# Altium footprint library RES2010.PcbLib: 4 footprints
Each footprint in its own frame and in the unit in brackets; x right, y up, seen from the top. Pads: shape width x height; smd on the part's side, far side on the other; paste and mask are expansions set on the pad; w line width, h text height; cw(c..) or ccw(c..) is an arc to the next point about the centre after c.
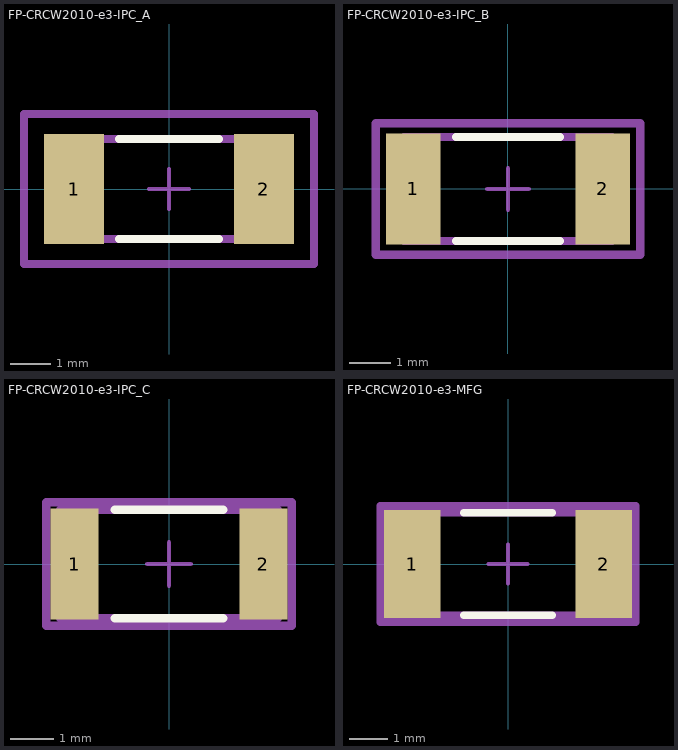
[diagram p0: the footprints below, top view; thin cyan lines are the x and y axes]

## FP-CRCW2010-e3-IPC_A [mm]
pads (2):
  rect 1.506x2.758 smd paste+0 mask+0: 1(-2.376,0) 2(2.376,0)
Top Overlay:
  lines w0.2: -1.248,-1.25 1.248,-1.25 ; -1.248,1.25 1.248,1.25
Top Assembly:
  lines w0.2: -3.629,-1.879 -3.629,1.879 3.629,1.879 3.629,-1.879 -3.629,-1.879
  text ".Designator" at 0,0.188 h1
Top 3D Body:
  lines w0.2: -2.5,-1.25 -2.5,1.25 2.5,1.25 2.5,-1.25 -2.5,-1.25
Top Courtyard:
  lines w0.2: -3.629,-1.879 -3.629,1.879 3.629,1.879 3.629,-1.879 -3.629,-1.879
Top Component Center:
  lines w0.1: -0.5,0 0.5,0 ; 0,-0.5 0,0.5
3D body "Res_Vishay_CRCW20106K04FKEF_eec.STEP": height 0.25, standoff 0, extent -3.629,-1.879 3.629,1.879

## FP-CRCW2010-e3-IPC_B [mm]
pads (2):
  rect 1.306x2.658 smd paste+0 mask+0: 1(-2.276,0) 2(2.276,0)
Top Overlay:
  lines w0.2: -1.248,-1.25 1.248,-1.25 ; -1.248,1.25 1.248,1.25
Top Assembly:
  lines w0.2: -3.179,-1.579 3.179,-1.579 3.179,1.579 -3.179,1.579 -3.179,-1.579
  text ".Designator" at 0,0.188 h1
Top 3D Body:
  lines w0.2: -2.5,-1.25 2.5,-1.25 2.5,1.25 -2.5,1.25 -2.5,-1.25
Top Courtyard:
  lines w0.2: -3.179,-1.579 3.179,-1.579 3.179,1.579 -3.179,1.579 -3.179,-1.579
Top Component Center:
  lines w0.1: -0.5,0 0.5,0 ; 0,-0.5 0,0.5
3D body "Res_Vishay_CRCW20106K04FKEF_eec.STEP": height 0.25, standoff 0, extent -3.179,-1.579 3.179,1.579

## FP-CRCW2010-e3-IPC_C [mm]
pads (2):
  rect 1.106x2.558 smd paste+0 mask+0: 1(-2.176,0) 2(2.176,0)
Top Overlay:
  lines w0.2: -1.248,-1.25 1.248,-1.25 ; -1.248,1.25 1.248,1.25
Top Assembly:
  lines w0.2: -2.829,-1.425 2.829,-1.425 2.829,1.425 -2.829,1.425 -2.829,-1.425
  text ".Designator" at 0,0.188 h1
Top 3D Body:
  lines w0.2: -2.5,-1.25 2.5,-1.25 2.5,1.25 -2.5,1.25 -2.5,-1.25
Top Courtyard:
  lines w0.2: -2.829,-1.425 2.829,-1.425 2.829,1.425 -2.829,1.425 -2.829,-1.425
Top Component Center:
  lines w0.1: -0.5,0 0.5,0 ; 0,-0.5 0,0.5
3D body "Res_Vishay_CRCW20106K04FKEF_eec.STEP": height 0.25, standoff 0, extent -2.829,-1.425 2.829,1.425

## FP-CRCW2010-e3-MFG [mm]
pads (2):
  rect 1.45x2.8 smd paste+0 mask+0: 1(-2.475,0) 2(2.475,0)
Top Overlay:
  lines w0.2: -1.145,-1.325 1.145,-1.325 ; -1.145,1.325 1.145,1.325
Top Assembly:
  lines w0.2: -3.3,-1.5 3.3,-1.5 3.3,1.5 -3.3,1.5 -3.3,-1.5
  text ".Designator" at 0,0.188 h1
Top 3D Body:
  lines w0.2: -2.575,-1.325 2.575,-1.325 2.575,1.325 -2.575,1.325 -2.575,-1.325
Top Courtyard:
  lines w0.2: -3.3,-1.5 3.3,-1.5 3.3,1.5 -3.3,1.5 -3.3,-1.5
Top Component Center:
  lines w0.1: -0.5,0 0.5,0 ; 0,-0.5 0,0.5
3D body "Res_Vishay_CRCW20106K04FKEF_eec.STEP": height 0.25, standoff 0, extent -3.3,-1.5 3.3,1.5